# Altium footprint library RK7002BMT116.PcbLib: 3 footprints
Each footprint in its own frame and in the unit in brackets; x right, y up, seen from the top. Pads: shape width x height; smd on the part's side, far side on the other; paste and mask are expansions set on the pad; w line width, h text height; cw(c..) or ccw(c..) is an arc to the next point about the centre after c.
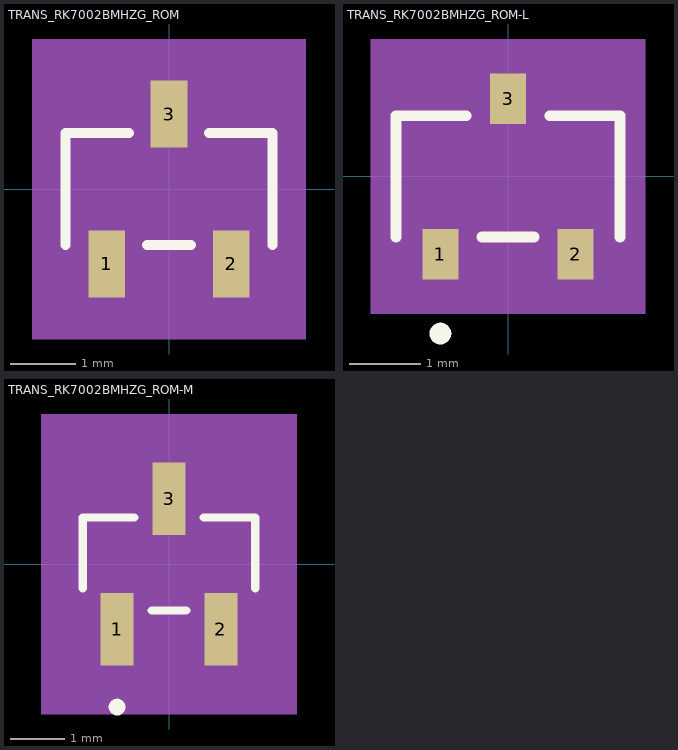
[diagram p0: the footprints below, top view; thin cyan lines are the x and y axes]

## TRANS_RK7002BMHZG_ROM [mil]
pads (3):
  rect 22x40 smd paste+0 mask+0: 1(-37.4,-45) 2(37.4,-45) 3(0,45)
Top Overlay:
  lines w6: -62,-33.5 -62,33.5 -24.1,33.5 ; -13.3,-33.5 13.3,-33.5 ; 24.1,33.5 62,33.5 62,-33.5
Mechanical 5:
  region: -82,90 82,90 82,-90 -82,-90
Mechanical 13:
  circle w0: c-37.4,-18.5 r0
  lines w1: -57,-28.5 57,-28.5 57,28.5 -57,28.5 -57,-28.5 ; -47.4,-51 -47.4,-28.5 -27.4,-28.5 -27.4,-51 -47.4,-51 ; -10,28.5 10,28.5 10,51 -10,51 -10,28.5 ; 27.4,-51 27.4,-28.5 47.4,-28.5 47.4,-51 27.4,-51
Mechanical 15:
  region: -67,-38.5 -67,38.5 -20,38.5 -20,75 20,75 20,38.5 67,38.5 67,-38.5 57.4,-38.5 57.4,-75 -57.4,-75 -57.4,-38.5
  lines w6: -67,-38.5 -67,38.5 -20,38.5 -20,75 20,75 20,38.5 67,38.5 67,-38.5 57.4,-38.5 57.4,-75 -57.4,-75 -57.4,-38.5 -67,-38.5
3D body "TRANS_RK7002BMHZG_ROM.step": height 47.09, standoff 0, extent -57.01,-50.98 57.01,50.98

## TRANS_RK7002BMHZG_ROM-L [mil]
pads (3):
  rect 20x28 smd paste+0 mask+0: 1(-37.4,-43) 2(37.4,-43) 3(0,43)
Top Overlay:
  circle w6: c-37.4,-87 r3
  lines w6: -62,-33.5 -62,33.5 -23.1,33.5 ; -14.3,-33.5 14.3,-33.5 ; 23.1,33.5 62,33.5 62,-33.5
Mechanical 5:
  region: -76,76 76,76 76,-76 -76,-76
Mechanical 13:
  circle w0: c-37.4,-18.5 r3
  lines w1: -57,-28.5 57,-28.5 57,28.5 -57,28.5 -57,-28.5 ; -47.4,-51 -47.4,-28.5 -27.4,-28.5 -27.4,-51 -47.4,-51 ; -10,28.5 10,28.5 10,51 -10,51 -10,28.5 ; 27.4,-51 27.4,-28.5 47.4,-28.5 47.4,-51 27.4,-51
Mechanical 15:
  region: -61,-32.5 -61,32.5 -14,32.5 -14,61 14,61 14,32.5 61,32.5 61,-32.5 51.4,-32.5 51.4,-61 -51.4,-61 -51.4,-32.5
  lines w6: -61,-32.5 -61,32.5 -14,32.5 -14,61 14,61 14,32.5 61,32.5 61,-32.5 51.4,-32.5 51.4,-61 -51.4,-61 -51.4,-32.5 -61,-32.5
3D body "TRANS_RK7002BMHZG_ROM.step": height 47.09, standoff 0, extent -57.01,-50.98 57.01,50.98

## TRANS_RK7002BMHZG_ROM-M [mil]
pads (3):
  rect 24x52 smd paste+0 mask+0: 1(-37.4,-47) 2(37.4,-47) 3(0,47)
Top Overlay:
  circle w6: c-37.4,-103 r3
  lines w6: -62,-17.41 -62,33.5 -25.1,33.5 ; -12.3,-33.5 12.3,-33.5 ; 25.1,33.5 62,33.5 62,-17.41
Mechanical 5:
  region: -92,108 92,108 92,-108 -92,-108
Mechanical 13:
  circle w0: c-37.4,-18.5 r3
  lines w1: -57,-28.5 57,-28.5 57,28.5 -57,28.5 -57,-28.5 ; -47.4,-51 -47.4,-28.5 -27.4,-28.5 -27.4,-51 -47.4,-51 ; -10,28.5 10,28.5 10,51 -10,51 -10,28.5 ; 27.4,-51 27.4,-28.5 47.4,-28.5 47.4,-51 27.4,-51
Mechanical 15:
  region: -77,-48.5 -77,48.5 -30,48.5 -30,93 30,93 30,48.5 77,48.5 77,-48.5 67.4,-48.5 67.4,-93 -67.4,-93 -67.4,-48.5
  lines w6: -77,-48.5 -77,48.5 -30,48.5 -30,93 30,93 30,48.5 77,48.5 77,-48.5 67.4,-48.5 67.4,-93 -67.4,-93 -67.4,-48.5 -77,-48.5
3D body "TRANS_RK7002BMHZG_ROM.step": height 47.09, standoff 0, extent -57.01,-50.98 57.01,50.98